# Altium schematic symbol library SamacSys.SchLib: 2 symbols
Pins are listed as number, name and electrical type; pins without a type are passive.

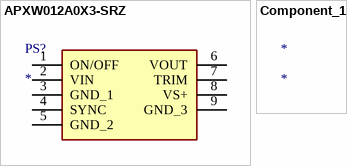
[diagram p0: symbols APXW012A0X3-SRZ to Component_1]

## APXW012A0X3-SRZ
designator PS?
Power Supply; Manufacturer_Name: ABB; Manufacturer_Part_Number: APXW012A0X3-SRZ; Description: Non-Isolated DC/DC Converters 9-36Vin 3-18Vout 12A SMT Non Iso NegLogic; Datasheet Link: https://datasheet.datasheetarchive.com/originals/distributors/Datasheets_SAMA/683ccf345f63793608341fe806dd9fff.pdf; Height: 10mm; Mouser Part Number: 894-APXW012A0X3-SRZ; Mouser Price/Stock: https://www.mouser.co.uk/ProductDetail/ABB/APXW012A0X3-SRZ?qs=R2DZpqZpp70Xpp2aKRKJXQ%3D%3D
footprint APXW012A0X3SRZ
pins: 1 ON/OFF, 2 VIN, 3 GND_1, 4 SYNC, 5 GND_2, 6 VOUT, 7 TRIM, 8 VS+, 9 GND_3

## Component_1
designator *